# Altium footprint library 场效应管.PcbLib: 6 footprints
Each footprint in its own frame and in the unit in brackets; x right, y up, seen from the top. Pads: shape width x height; smd on the part's side, far side on the other; paste and mask are expansions set on the pad; w line width, h text height; cw(c..) or ccw(c..) is an arc to the next point about the centre after c.
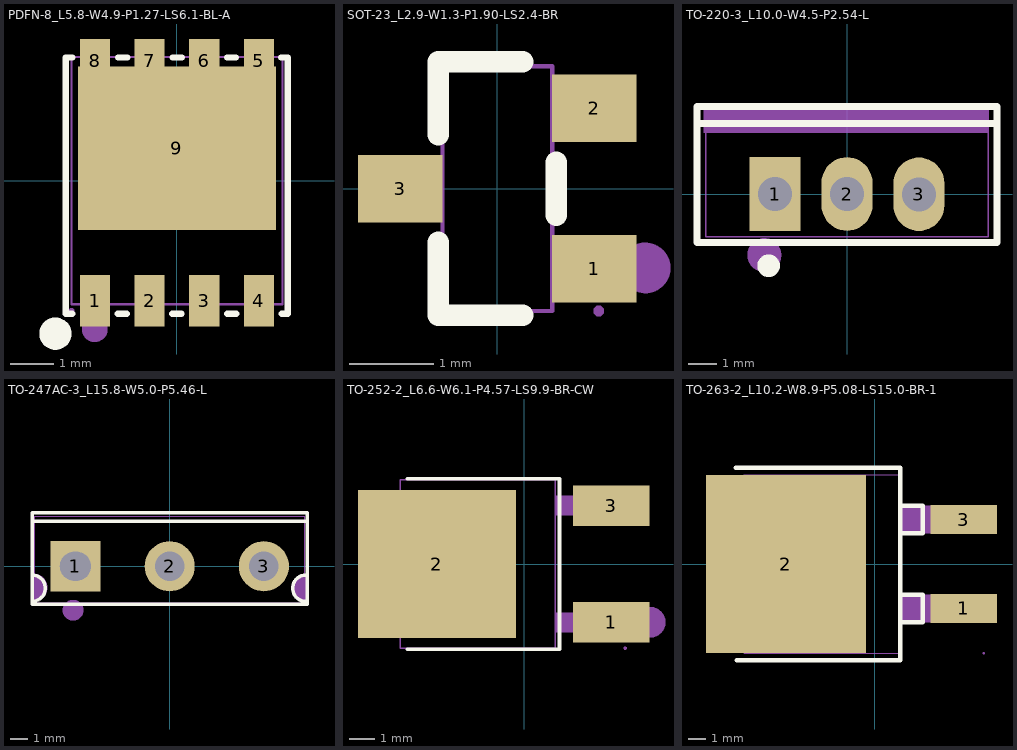
[diagram p0: the footprints below, top view; thin cyan lines are the x and y axes]

## PDFN-8_L5.8-W4.9-P1.27-LS6.1-BL-A [mm]
pads (9):
  rect 0.7x1.2 smd paste-100 mask+0.05: 1(-1.905,-2.792) 2(-0.635,-2.792) 3(0.635,-2.792) 4(1.905,-2.792)
  rect 0.7x1 smd paste-100 mask+0.05: 5(1.905,2.792) 6(0.635,2.792) 7(-0.635,2.792) 8(-1.905,2.792)
  rect 4.6x3.8 smd paste-100 mask+0.05: 9(0,0.75)
Top Overlay:
  lines w0.15: -2.58,2.863 -2.58,-3.097 -2.434,-3.097 ; -2.57,2.863 -2.429,2.863 ; -1.376,-3.097 -1.164,-3.097 ; -1.371,2.863 -1.159,2.863 ; -0.106,-3.097 0.106,-3.097 ; -0.101,2.863 0.111,2.863 ; 1.164,-3.097 1.376,-3.097 ; 1.169,2.863 1.371,2.863 ; 2.429,2.863 2.58,2.863 2.58,2.833 2.58,-3.097 2.434,-3.097
  lines w0.5: -2.95,-3.557 ccw(c-2.826,-3.556) -2.701,-3.556 ccw(c-2.826,-3.556) -2.95,-3.555
Top Paste:
  region: -2.255,-2.192 -1.555,-2.192 -1.555,-3.392 -2.255,-3.392
  region: -0.985,-2.192 -0.285,-2.192 -0.285,-3.392 -0.985,-3.392
  region: 0.285,-2.192 0.985,-2.192 0.985,-3.392 0.285,-3.392
  region: 1.555,-2.192 2.255,-2.192 2.255,-3.392 1.555,-3.392
  region: 2.3,2.65 2.3,-1.15 -2.3,-1.15 -2.3,2.65 -2.255,2.65 -2.255,3.292 -1.555,3.292 -1.555,2.65 -0.984,2.65 -0.984,3.292 -0.285,3.292 -0.285,2.65 0.285,2.65 0.285,3.292 0.985,3.292 0.985,2.65 1.556,2.65 1.556,3.292 2.255,3.292 2.255,2.65
Mechanical 6:
  circle w0.3: c-1.91,-3.452 r0.15
Mechanical 15:
  region: -2.39,-3.025 -2.39,-3 -2.425,-2.965 -2.475,-2.965 -2.51,-3 -2.51,-3.025 -2.51,-3.05 -2.475,-3.085 -2.425,-3.085 -2.39,-3.05 -2.39,-3.025
  region: -2.105,3.025 -1.695,3.025 -1.695,2.575 -2.105,2.575
  region: -0.835,3.025 -0.425,3.025 -0.425,2.575 -0.835,2.575
  region: 0.435,3.025 0.845,3.025 0.845,2.575 0.435,2.575
  region: 1.695,3.025 2.105,3.025 2.105,2.575 1.695,2.575
  region: -2.1,2.58 2.1,2.58 2.1,-0.82 -2.1,-0.82
  region: -2.11,-2.575 -1.7,-2.575 -1.7,-3.025 -2.11,-3.025
  region: -0.84,-2.575 -0.43,-2.575 -0.43,-3.025 -0.84,-3.025
  region: 0.43,-2.575 0.84,-2.575 0.84,-3.025 0.43,-3.025
  region: 1.7,-2.575 2.11,-2.575 2.11,-3.025 1.7,-3.025
  lines w0.051: -2.45,-2.875 -2.45,2.875 2.45,2.875 2.45,-2.875 -2.45,-2.875
3D body "Q1.step": height 1.07, standoff 0, extent -2.55,-3.025 2.55,3.025

## SOT-23_L2.9-W1.3-P1.90-LS2.4-BR [mm]
pads (3):
  rect 1x0.8 smd: 1(1.15,-0.95) 2(1.15,0.95) 3(-1.15,0)
Top Overlay:
  lines w0.254: -0.7,-0.636 -0.7,-1.5 0.3,-1.5 ; -0.7,0.636 -0.7,1.5 0.3,1.5 ; 0.7,-0.314 0.7,0.314
Mechanical 6:
  circle w0.3: c1.753,-0.94 r0.15
Mechanical 15:
  region: 1.26,-1.45 1.26,-1.425 1.225,-1.39 1.175,-1.39 1.14,-1.425 1.14,-1.45 1.14,-1.475 1.175,-1.51 1.225,-1.51 1.26,-1.475
  region: 0.64,-1.15 0.64,-0.75 0.81,-0.75 0.81,-1.15
  region: 0.8,-1.15 0.8,-0.75 1.2,-0.75 1.2,-1.15
  region: 0.64,0.75 0.64,1.15 0.81,1.15 0.81,0.75
  region: 0.8,0.75 0.8,1.15 1.2,1.15 1.2,0.75
  region: -0.81,-0.2 -0.81,0.2 -0.64,0.2 -0.64,-0.2
  region: -1.2,-0.2 -1.2,0.2 -0.8,0.2 -0.8,-0.2
  lines w0.051: -0.65,-1.45 -0.65,1.45 0.65,1.45 0.65,-1.45 -0.65,-1.45
3D body "SOT23-3.STEP": height 1.05, standoff 0, extent -1.13,-1.5 1.27,1.5

## TO-220-3_L10.0-W4.5-P2.54-L [mm]
pads (3):
  rect 1.8x2.6 hole 1.2: 1(-2.54,0.005)
  oval 1.8x2.6 hole 1.2: 2(0,0.005)
  oval 1.8x2.6 hole 1.2 copper offset 0,0: 3(2.54,-0.005)
Top Overlay:
  lines w0.254: -5.3,2.495 5.3,2.495 ; -5.301,-1.704 -5.301,3.089 -5.301,3.094 5.301,3.094 5.301,-1.704 -5.301,-1.704
  lines w0.4: -2.77,-2.33 ccw(c-2.769,-2.53) -2.768,-2.33
Mechanical 6:
  circle w0.6: c-2.921,-2.154 r0.3
  region: -5.06,3.01 -5.06,2.17 4.99,2.17 4.99,3.01
Mechanical 15:
  region: 2.19,-0.33 2.19,0.32 2.89,0.32 2.89,-0.33
  region: -0.35,-0.32 -0.35,0.33 0.35,0.33 0.35,-0.32
  region: -2.89,-0.32 -2.89,0.33 -2.19,0.33 -2.19,-0.32
  region: -4.94,3 -4.94,3.025 -4.975,3.06 -5.025,3.06 -5.06,3.025 -5.06,3 -5.06,2.975 -5.025,2.94 -4.975,2.94 -4.94,2.975
  lines w0.051: -5,-1.5 5,-1.5 5,3 -5,3 -5,-1.5
3D body "4.STEP": height 18.5, standoff -4, extent -5.08,-1.448 5.22,2.982

## TO-247AC-3_L15.8-W5.0-P5.46-L [mm]
pads (3):
  rect 2.9x2.9 hole 1.7 slot 1.785 at 0 deg: 1(-5.45,0)
  round 2.9 hole 1.7: 2(0,0) 3(5.45,0)
Top Overlay:
  lines w0.2: -7.951,-2.029 ccw(c-7.951,-1.267) -7.951,-0.505 ; -7.951,2.6 7.95,2.6 ; 7.874,-2.032 cw(c7.874,-1.27) 7.874,-0.508 ; -7.951,-2.201 7.95,-2.201 7.95,3.1 -7.951,3.1 -7.951,-2.201
Mechanical 6:
  circle w0.6: c-5.588,-2.54 r0.3
  region: 7.873,-0.432 7.767,-0.432 7.564,-0.486 7.382,-0.592 7.233,-0.741 7.127,-0.923 7.073,-1.127 7.073,-1.337 7.127,-1.541 7.233,-1.723 7.382,-1.872 7.564,-1.977 7.767,-2.032 7.873,-2.032
  region: -7.874,-2.032 -7.769,-2.032 -7.565,-1.977 -7.383,-1.872 -7.234,-1.723 -7.129,-1.541 -7.074,-1.337 -7.074,-1.127 -7.129,-0.923 -7.234,-0.741 -7.383,-0.592 -7.565,-0.487 -7.769,-0.432 -7.874,-0.432
Mechanical 15:
  region: 4.845,0.312 6.055,0.312 6.055,-0.312 4.845,-0.312
  region: -0.605,0.312 0.605,0.312 0.605,-0.312 -0.605,-0.312
  region: -6.055,0.312 -4.845,0.312 -4.845,-0.312 -6.055,-0.312
  region: -7.814,-2.19 -7.815,-2.166 -7.85,-2.132 -7.898,-2.132 -7.933,-2.166 -7.934,-2.19 -7.933,-2.214 -7.898,-2.247 -7.85,-2.247 -7.815,-2.214
  lines w0.051: -7.8,-2.1 7.8,-2.1 7.8,2.9 -7.8,2.9 -7.8,-2.1
3D body "Q7.step": height 24.5, standoff -3.5, extent -7.9,-2.8 7.9,2.201

## TO-252-2_L6.6-W6.1-P4.57-LS9.9-BR-CW [mm]
pads (3):
  rect 3x1.6 smd: 1(3.424,-2.29) 3(3.424,2.29)
  rect 6.2x5.8 smd: 2(-3.424,0)
Top Overlay:
  lines w0.152: -4.585,-3.346 1.383,-3.346 1.383,3.346 -4.585,3.346
Mechanical 6:
  circle w0.6: c4.953,-2.286 r0.3
Mechanical 15:
  region: -4.954,2.505 -0.938,2.505 -0.938,-2.505 -4.954,-2.505 -5.954,-1.505 -5.954,1.505
  region: 2.371,1.91 2.371,2.67 3.961,2.67 3.961,1.91
  region: 1.211,1.91 1.211,2.67 2.381,2.67 2.381,1.91
  region: 2.371,-2.67 2.371,-1.91 3.961,-1.91 3.961,-2.67
  region: 1.211,-2.67 1.211,-1.91 2.381,-1.91 2.381,-2.67
  region: 4.021,-3.3 4.02,-3.276 3.986,-3.242 3.937,-3.242 3.903,-3.276 3.902,-3.3 3.903,-3.324 3.937,-3.357 3.986,-3.358 4.02,-3.324
  lines w0.051: -4.874,-3.3 -4.874,3.3 1.221,3.3 1.221,-3.3 -4.874,-3.3
3D body "2.STEP": height 2.3, standoff 0, extent -5.844,-3.325 3.576,3.175

## TO-263-2_L10.2-W8.9-P5.08-LS15.0-BR-1 [mm]
pads (3):
  rect 3.8x1.68 smd: 1(5.073,-2.54) 3(5.073,2.54)
  rect 9.144x10.16 smd: 2(-5.073,0)
Top Overlay:
  lines w0.254: -7.936,5.49 1.444,5.49 1.444,-5.49 -7.876,-5.49 ; 1.444,-3.32 2.744,-3.32 2.744,-1.755 1.444,-1.755 ; 1.444,1.76 2.744,1.76 2.744,3.325 1.444,3.325
Mechanical 6:
  circle w0.8: c4.305,-2.54 r0.4
Mechanical 15:
  region: 6.273,-5.1 6.273,-5.075 6.238,-5.04 6.188,-5.04 6.153,-5.075 6.153,-5.1 6.153,-5.125 6.188,-5.16 6.238,-5.16 6.273,-5.125
  region: -7.446,-3.9 -7.446,-5.08 -8.041,-5.08 -8.806,-3.8 -8.806,3.8 -8.041,5.08 -7.446,5.08 -7.446,3.9 -1.156,4.3 -1.156,3.885 -1.156,-4.3
  region: 3.93,-1.75 3.93,-3.32 1.42,-3.32 1.42,-1.75
  region: 6.223,2.14 3.923,2.14 3.923,2.94 6.223,2.94
  region: 6.223,-2.94 3.923,-2.94 3.923,-2.14 6.223,-2.14
  region: 3.93,3.33 3.93,1.76 1.42,1.76 1.42,3.33
  lines w0.051: -7.467,-5.1 -7.467,5.1 1.433,5.1 1.433,-5.1 -7.467,-5.1
3D body "1.STEP": height 4.5, standoff 0, extent -9.369,-5.047 5.561,4.953